# Altium footprint library IC_Power.PcbLib: 13 footprints
Each footprint in its own frame and in the unit in brackets; x right, y up, seen from the top. Pads: shape width x height; smd on the part's side, far side on the other; paste and mask are expansions set on the pad; w line width, h text height; cw(c..) or ccw(c..) is an arc to the next point about the centre after c.
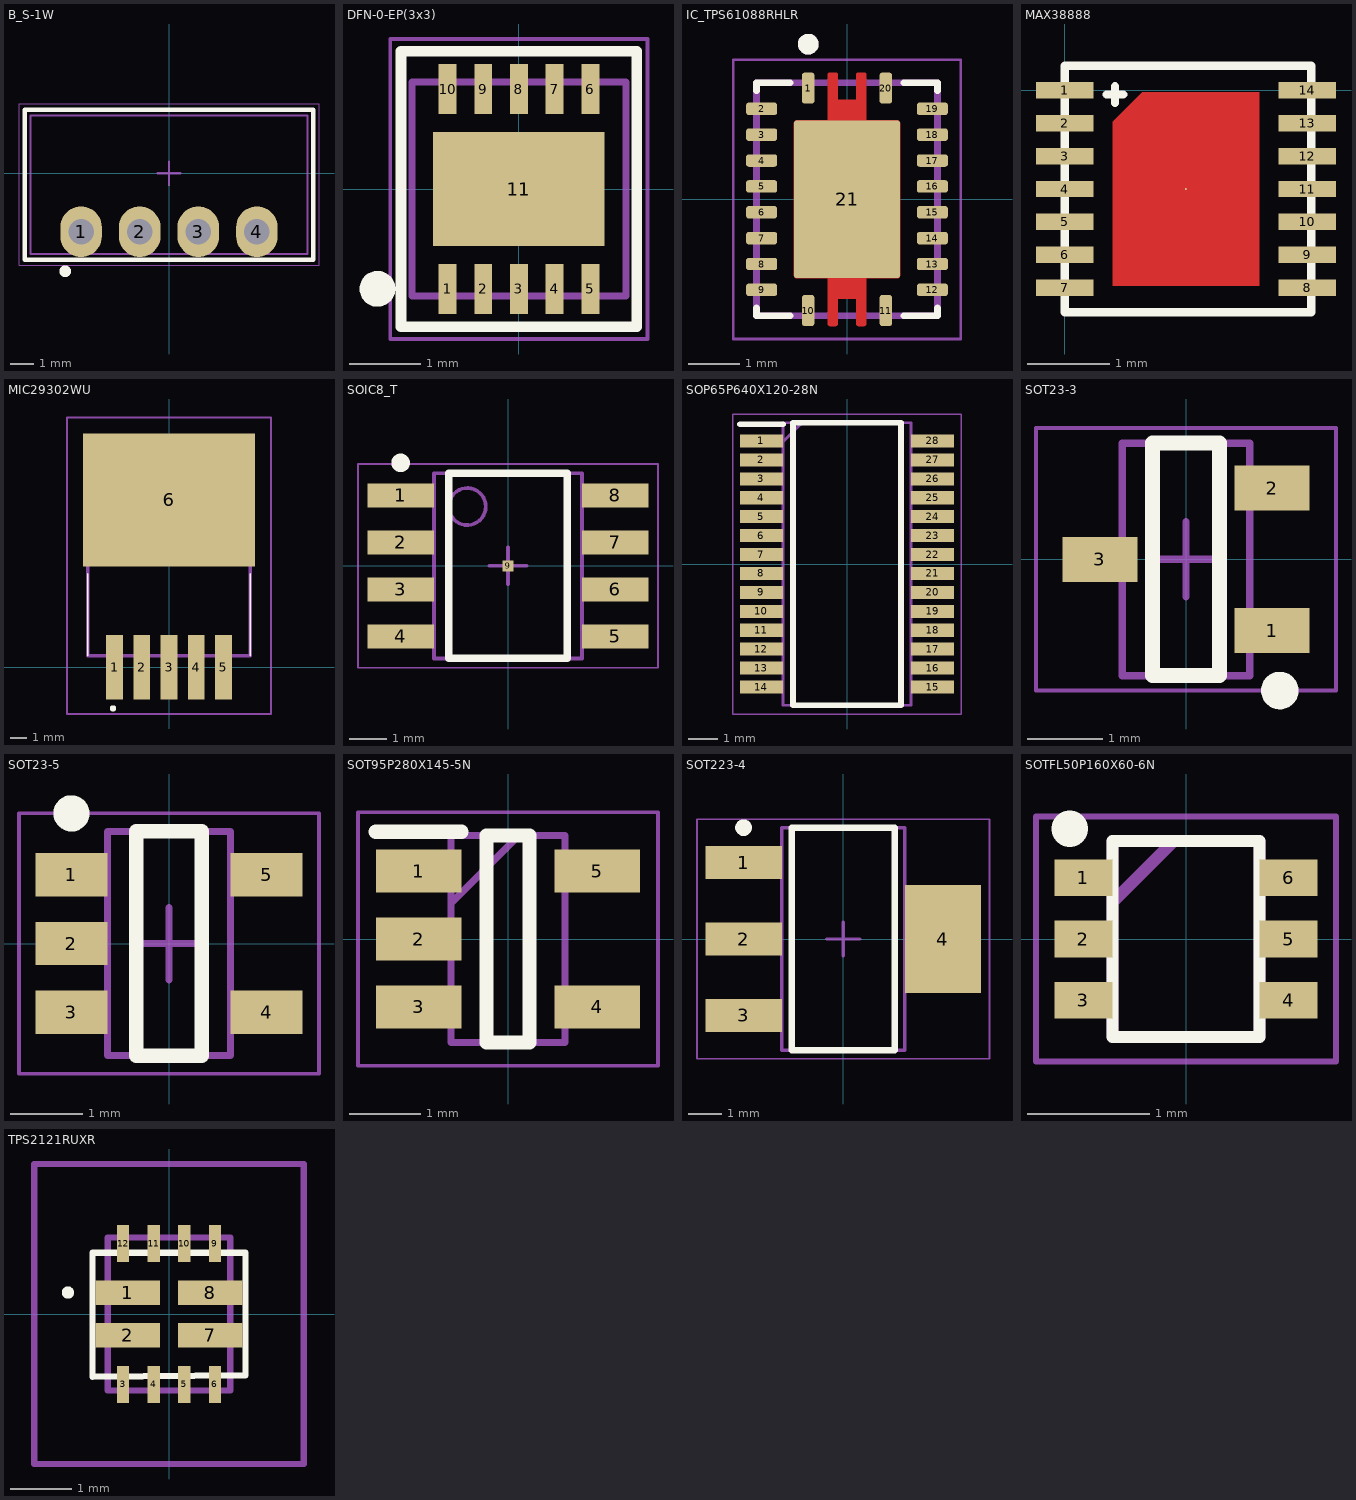
[diagram p0: the footprints below, top view; thin cyan lines are the x and y axes]

## B_S-1W [mm] "SOT23, 6-Leads, Body 2.90x2.80mm, Pitch 0.95mm, IPC Medium Density"
height 1.25
pads (4):
  oval 1.8x2.2 hole 1.1: 1(-3.81,-2.54) 2(-1.27,-2.54) 3(1.27,-2.54) 4(3.81,-2.54)
Top Overlay:
  circle w0.25: c-4.5,-4.25 r0.125
  lines w0.2: -6.25,-3.75 -6.25,2.75 6.25,2.75 6.25,-3.75 -6.25,-3.75
Mechanical 13:
  lines w0.1: -6,-3.5 6,-3.5 6,2.5 -6,2.5 -6,-3.5
Mechanical 15:
  lines w0.05: -6.5,-4 6.5,-4 6.5,3 -6.5,3 -6.5,-4
  lines w0.1: -0.5,0 0.5,0 ; 0,-0.5 0,0.5
3D body: height 10.16, standoff 0.2, extent -6,-3.5 6,2.5

## DFN-0-EP(3x3) [mm] "SOT23, 6-Leads, Body 2.90x2.80mm, Pitch 0.95mm, IPC Medium Density"
height 1.25
pads (11):
  rect 0.25x0.7 smd paste+0 mask+0.05: 1(-1,-1.4) 2(-0.5,-1.4) 3(0,-1.4) 4(0.5,-1.4) 5(1,-1.4) 6(1,1.4) 7(0.5,1.4) 8(0,1.4) 9(-0.5,1.4) 10(-1,1.4)
  rect 2.4x1.6 smd paste+0 mask+0.05: 11(0,0)
Top Overlay:
  circle w0.25: c-1.981,-1.397 r0.125
  lines w0.15: -1.651,-1.93 1.651,-1.93 1.651,1.93 -1.651,1.93 -1.651,-1.93
Mechanical 13:
  lines w0.1: -1.499,-1.5 -1.499,1.499 1.499,1.499 1.499,-1.5 -1.499,-1.5
Mechanical 15:
  lines w0.05: -1.8,-2.1 1.8,-2.1 1.8,2.1 -1.8,2.1 -1.8,-2.1
  lines w0.1: -0.483,0 0.483,0 ; 0,-0.483 0,0.483
3D body: height 0.9, standoff 0, extent -1.499,-1.499 1.5,1.5

## IC_TPS61088RHLR [mm]
pads (21):
  rrect42% 0.24x0.6 smd: 1(-0.75,2.15) 10(-0.75,-2.15) 11(0.75,-2.15) 20(0.75,2.15)
  rrect42% 0.6x0.24 smd: 2(-1.65,1.75) 3(-1.65,1.25) 4(-1.65,0.75) 5(-1.65,0.25) 6(-1.65,-0.25) 7(-1.65,-0.75) 8(-1.65,-1.25) 9(-1.65,-1.75) 12(1.65,-1.75) 13(1.65,-1.25) 14(1.65,-0.75) 15(1.65,-0.25) 16(1.65,0.25) 17(1.65,0.75) 18(1.65,1.25) 19(1.65,1.75)
  rrect5% 2.05x3.05 smd paste-3: 21(0,0)
Top Layer:
  region: 380 vertices and 0 holes, not listed, extent -1.025,-2.45 1.025,2.45
Top Overlay:
  circle w0.2: c-0.75,3 r0.1
  lines w0.127: -1.75,-2.1 -1.75,-2.25 -1.1,-2.25 ; -1.75,2.1 -1.75,2.25 -1.1,2.25 ; 1.1,-2.25 1.75,-2.25 1.75,-2.1 ; 1.1,2.25 1.75,2.25 1.75,2.1
Top Paste:
  drawing of 8 lines, arcs and shapes, not listed
Top Solder:
  drawing of 1 lines, arcs and shapes, not listed
Mechanical 13:
  circle w0.2: c-0.75,3 r0.1
  lines w0.127: -1.75,-2.25 -1.75,2.25 1.75,2.25 1.75,-2.25 -1.75,-2.25
Mechanical 15:
  lines w0.05: -2.2,-2.7 2.2,-2.7 2.2,2.7 -2.2,2.7 -2.2,-2.7
3D body "RHL0020A.stp": height 0.97, standoff -0.03, extent -1.75,-2.25 1.75,2.25

## MAX38888 [mm] "TDFN-EP Package 14 pins"
pads (15):
  rect 0.7x0.2 smd mask+0.05: 1(0,0) 2(0,-0.4) 3(0,-0.8) 4(0,-1.2) 5(0,-1.6) 6(0,-2) 7(0,-2.4) 8(2.95,-2.4) 9(2.95,-2) 10(2.95,-1.6) 11(2.95,-1.2) 12(2.95,-0.8) 13(2.95,-0.4) 14(2.95,0)
  round 0.025 smd: 15(1.473,-1.2)
Top Layer:
  region: 0.94,-0.025 0.583,-0.382 0.583,-2.375 2.363,-2.375 2.363,-0.025
Top Overlay:
  lines w0.1: 0.508,-0.051 0.711,-0.051 ; 0.61,-0.152 0.61,0.051 ; 0,-2.7 3,-2.7 3,0.3 0,0.3 0,-2.7
3D body: height 0.25, standoff 0, extent 0,-2.7 3,0.3

## MIC29302WU [mm]
pads (6):
  rect 1.041x4.039 smd: 1(-3.404,0) 2(-1.702,0) 3(0,0) 4(1.702,0) 5(3.404,0)
  rect 10.744x8.306 smd: 6(0,10.452)
Top Overlay:
  lines w0.1: -5.08,0.717 -5.08,5.826 ; 5.08,0.726 5.08,5.826
  lines w0.2: -3.6,-2.574 ccw(c-3.5,-2.574) -3.4,-2.574 ccw(c-3.5,-2.574) -3.6,-2.574
Mechanical 13:
  lines w0.1: -6.372,-2.921 6.372,-2.921 6.372,15.605 -6.372,15.605 -6.372,-2.921
  lines w0.2: -5.08,0.717 5.08,0.717 5.08,9.735 -5.08,9.735 -5.08,0.717
3D body "step_temp.STEP": height 10.72, standoff -4.19, extent -5.207,-2.286 4.953,2.794

## SOIC8_T [mm] "SOIC, 8-Leads, Body 4.90x3.90mm, Pitch 1.27mm, Thermal Pad 3.10x2.40mm, IPC Medium Density"
height 1.8
pads (9):
  rect 1.8x0.65 smd: 1(-2.9,1.905) 2(-2.9,0.635) 3(-2.9,-0.635) 4(-2.9,-1.905) 5(2.9,-1.905) 6(2.9,-0.635) 7(2.9,0.635) 8(2.9,1.905)
  rect 0.3x0.3 smd: 9(0,0)
Top Overlay:
  circle w0.25: c-2.9,2.78 r0.125
  lines w0.2: -1.6,-2.5 -1.6,2.5 1.6,2.5 1.6,-2.5 -1.6,-2.5
Mechanical 13:
  circle w0.1: c-1.1,1.6 r0.5
  lines w0.1: -2,-2.5 -2,2.5 2,2.5 2,-2.5 -2,-2.5
Mechanical 15:
  lines w0.05: -4.05,-2.75 -4.05,2.75 4.05,2.75 4.05,-2.75 -4.05,-2.75
  lines w0.1: -0.5,0 0.5,0 ; 0,-0.5 0,0.5
3D body: height 1.8, standoff 0.1, extent -2,-2.5 2,2.5

## SOP65P640X120-28N [mm] "TPS23861PWR"
pads (28):
  rect 1.475x0.45 smd: 1(-2.938,4.225) 2(-2.938,3.575) 3(-2.938,2.925) 4(-2.938,2.275) 5(-2.938,1.625) 6(-2.938,0.975) 7(-2.938,0.325) 8(-2.938,-0.325) 9(-2.938,-0.975) 10(-2.938,-1.625) 11(-2.938,-2.275) 12(-2.938,-2.925) 13(-2.938,-3.575) 14(-2.938,-4.225) 15(2.938,-4.225) 16(2.938,-3.575) 17(2.938,-2.925) 18(2.938,-2.275) 19(2.938,-1.625) 20(2.938,-0.975) 21(2.938,-0.325) 22(2.938,0.325) 23(2.938,0.975) 24(2.938,1.625) 25(2.938,2.275) 26(2.938,2.925) 27(2.938,3.575) 28(2.938,4.225)
Top Overlay:
  lines w0.2: -3.675,4.8 -2.2,4.8 ; -1.85,-4.85 -1.85,4.85 1.85,4.85 1.85,-4.85 -1.85,-4.85
Mechanical 13:
  lines w0.1: -2.2,4.2 -1.55,4.85 ; -2.2,-4.85 -2.2,4.85 2.2,4.85 2.2,-4.85 -2.2,-4.85
Mechanical 15:
  lines w0.05: -3.925,-5.15 -3.925,5.15 3.925,5.15 3.925,-5.15 -3.925,-5.15
3D body "TPS23861PW.stp": height 1.13, standoff 0, extent -3.2,-4.85 3.2,4.85

## SOT23-3 [mm] "SOT23, 5-Leads, Body 2,95x2,45mm, Pitch 0,95mm, IPC Medium Density"
height 1.3
pads (3):
  rect 1x0.6 smd: 1(1.15,-0.95) 2(1.15,0.95) 3(-1.15,0)
Top Overlay:
  circle w0.25: c1.25,-1.75 r0.125
  lines w0.2: -0.45,-1.55 -0.45,1.55 0.45,1.55 0.45,-1.55 -0.45,-1.55
Mechanical 13:
  lines w0.1: -0.85,-1.55 0.85,-1.55 0.85,1.55 -0.85,1.55 -0.85,-1.55
Mechanical 15:
  lines w0.05: -2,-1.75 2,-1.75 2,1.75 -2,1.75 -2,-1.75
  lines w0.1: -0.5,0 0.5,0 ; 0,-0.5 0,0.5
3D body: height 1.3, standoff 0.05, extent -0.85,-1.55 0.85,1.55

## SOT23-5 [mm] "SOT23, 5-Leads, Body 2,95x2,45mm, Pitch 0,95mm, IPC Medium Density"
height 1.3
pads (5):
  rect 1x0.6 smd: 1(-1.35,0.95) 2(-1.35,0) 3(-1.35,-0.95) 4(1.35,-0.95) 5(1.35,0.95)
Top Overlay:
  circle w0.25: c-1.35,1.8 r0.125
  lines w0.2: -0.45,-1.55 -0.45,1.55 0.45,1.55 0.45,-1.55 -0.45,-1.55
Mechanical 13:
  lines w0.1: -0.85,-1.55 0.85,-1.55 0.85,1.55 -0.85,1.55 -0.85,-1.55
Mechanical 15:
  lines w0.05: -2.075,-1.8 2.075,-1.8 2.075,1.8 -2.075,1.8 -2.075,-1.8
  lines w0.1: -0.5,0 0.5,0 ; 0,-0.5 0,0.5
3D body: height 1.3, standoff 0.05, extent -0.85,-1.55 0.85,1.55

## SOT95P280X145-5N [mm]
pads (5):
  rect 1.2x0.6 smd: 1(-1.25,0.95) 2(-1.25,0) 3(-1.25,-0.95) 4(1.25,-0.95) 5(1.25,0.95)
Top Overlay:
  lines w0.2: -1.85,1.5 -0.65,1.5 ; -0.3,-1.45 -0.3,1.45 0.3,1.45 0.3,-1.45 -0.3,-1.45
Mechanical 13:
  lines w0.1: -0.8,0.5 0.15,1.45 ; -0.8,-1.45 -0.8,1.45 0.8,1.45 0.8,-1.45 -0.8,-1.45
Mechanical 15:
  lines w0.05: -2.1,-1.775 -2.1,1.775 2.1,1.775 2.1,-1.775 -2.1,-1.775
3D body "SN74LVC1G08DBVR.stp": height 1.2, standoff 0, extent -1.4,-1.45 1.4,1.45

## SOT223-4 [mm] "SOT223, 4-Leads, Body 6,50x7,00mm (avg), Pitch 2,30mm, IPC Medium Density"
height 1.8
pads (4):
  rect 2.3x1 smd: 1(-3,2.3) 2(-3,0) 3(-3,-2.3)
  rect 2.3x3.25 smd: 4(3,0)
Top Overlay:
  circle w0.25: c-3,3.35 r0.125
  lines w0.2: -1.55,-3.35 1.55,-3.35 1.55,3.35 -1.55,3.35 -1.55,-3.35
Mechanical 13:
  lines w0.1: -1.85,-3.35 1.85,-3.35 1.85,3.35 -1.85,3.35 -1.85,-3.35
Mechanical 15:
  lines w0.05: -4.4,-3.6 4.4,-3.6 4.4,3.6 -4.4,3.6 -4.4,-3.6
  lines w0.1: -0.5,0 0.5,0 ; 0,-0.5 0,0.5
3D body: height 1.8, standoff 0.02, extent -1.85,-3.35 1.85,3.35

## SOTFL50P160X60-6N [mm]
pads (6):
  rect 0.475x0.3 smd: 1(-0.838,0.5) 2(-0.838,0) 3(-0.838,-0.5) 4(0.838,-0.5) 5(0.838,0) 6(0.838,0.5)
Top Overlay:
  lines w0.1: -0.6,-0.8 0.6,-0.8 0.6,0.8 -0.6,0.8 -0.6,-0.8
  lines w0.3: -0.95,0.9 -0.95,0.9
Mechanical 13:
  lines w0.1: -0.6,0.3 -0.1,0.8 ; -0.6,-0.8 0.6,-0.8 0.6,0.8 -0.6,0.8 -0.6,-0.8
Mechanical 15:
  lines w0.05: -1.225,-1 1.225,-1 1.225,1 -1.225,1 -1.225,-1
3D body "TPS61023DRLR.stp": height 0.6, standoff 0, extent -0.8,-0.78 0.8,0.82

## TPS2121RUXR [mm]
pads (12):
  rect 1.05x0.4 smd: 1(-0.675,0.35) 2(-0.675,-0.35) 7(0.675,-0.35) 8(0.675,0.35)
  rect 0.2x0.6 smd: 3(-0.75,-1.15) 4(-0.25,-1.15) 5(0.25,-1.15) 6(0.75,-1.15) 9(0.75,1.15) 10(0.25,1.15) 11(-0.25,1.15) 12(-0.75,1.15)
Top Overlay:
  lines w0.1: -1.7,0.35 ccw(c-1.65,0.35) -1.6,0.35 ccw(c-1.65,0.35) -1.7,0.35 ; -1.25,-1.025 1.25,-1 1.25,1 -1.25,1 -1.25,-1.025
Mechanical 13:
  lines w0.1: -1,-1.25 -1,1.25 1,1.25 1,-1.25 -1,-1.25
Mechanical 15:
  lines w0.1: -2.2,-2.45 -2.2,2.45 2.2,2.45 2.2,-2.45 -2.2,-2.45
3D body "TPS2121RUXR.stp": height 1, standoff 0, extent -1.25,-1 1.25,1